# EAGLE library part MCP2562T-E-MF (library DAWA-MAIN-7.0)
1/1 Transceiver Half CANbus 8-DFN (3x3)
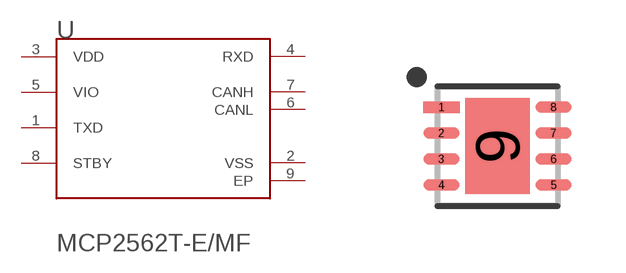
[diagram p7: symbol with the pads of MICROCHIP_MCP2562T-E-MF_2; footprint MICROCHIP_MCP2562T-E-MF_2]

Designator prefix U

## MCP2562T-E-MFMICROCHIP_MCP2562T-E-MF_0_2 (MPN: MCP2562T-E/MF)  [MICROCHIP_MCP2562T-E-MF_2]
1  TXD  in
2  VSS  pwr
3  VDD  pwr
4  RXD  out
5  VIO  pwr
6  CANL
7  CANH
8  STBY  in
9  EP  pwr

## Footprint MICROCHIP_MCP2562T-E-MF_2 (pad centres in mm)
1/1 Transceiver Half CANbus 8-DFN (3x3)
smd 0.906 x 0.292: 1 -1.403,0.975; 2 -1.403,0.325; 3 -1.403,-0.325; 4 -1.403,-0.975; 5 1.403,-0.975; 6 1.403,-0.325; 7 1.403,0.325; 8 1.403,0.975
smd 1.6 x 2.4: 9 0,0